# EAGLE library part AD8307 (library JerParts)
+2.7 V to +5.5 V, DC to 500 MHz, 92 dB Logarithmic Amplifier Source: http://www.analog.com/media/en/technical-documentation/data-sheets/AD8307.pdf
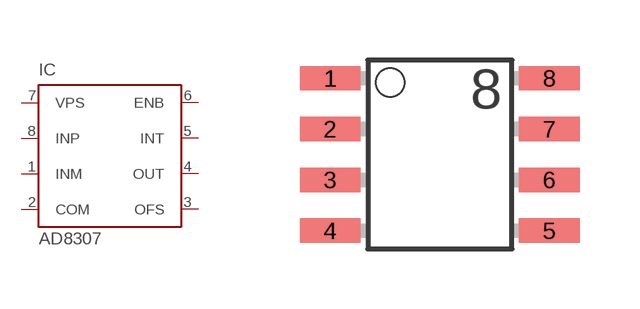
[diagram p1: symbol with the pads of SO-8; footprint SO-8]

Designator prefix IC

## AD8307  [SO-8]
1  INM  in
2  COM  pwr
3  OFS  in
4  OUT  in
5  INT  pas
6  ENB  out
7  VPS  out
8  INP  in

## Footprint SO-8 (pad centres in mm)
SO 8 small outline
smd 1.524 x 0.61: 1 -2.743,1.905; 2 -2.743,0.635; 3 -2.743,-0.635; 4 -2.743,-1.905; 5 2.743,-1.905; 6 2.743,-0.635; 7 2.743,0.635; 8 2.743,1.905